# Altium schematic symbol library Schlib_VZPP_S.SchLib: 1 symbol
Pins are listed as number, name and electrical type; pins without a type are passive.

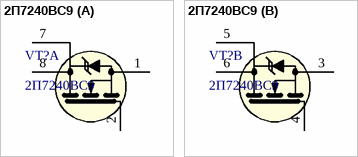
[diagram p0: symbol 2П7240ВС9]

## 2П7240ВС9
designator VT?
2x N-Channel MOSFET, 100V, 3.5A; Manufacturer: ВЗПП-С; Part Number: 2П7240ВС9; Package: 4320.8-А (SO-8)
footprint SOIC-8 (SOIC-8 package)
part A pins: 1 SOURCE1 (power), 2 GATE1 (power), 7 DRAIN1 (power), 8 DRAIN1 (power)
part B pins: 3 SOURCE2 (power), 4 GATE2 (power), 5 DRAIN2 (power), 6 DRAIN2 (power)